# Altium schematic symbol library Switch.SchLib: 4 symbols
Pins are listed as number, name and electrical type; pins without a type are passive.

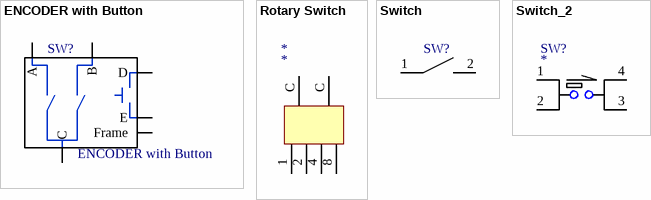
[diagram p0: symbols ENCODER with Button to Switch_2]

## ENCODER with Button
designator SW?
footprint EC12D1564402 (Encoder with button)
pins: A, B, C, D, E, F Frame

## Rotary Switch
designator *
footprint AMEM P36-S-1-01
pins: 1, 2, 4, 8, C, C

## Switch
designator SW?  (value not drawn)
pins: 1, 2

## Switch_2
designator SW?
Value: *; Catalog: *; Catalog page: *; Catalog number: *; Price: *
footprint SPVP110100
pins: 1, 2, 3, 4